# Altium schematic symbol library 2020-03-27_06-20-10.SchLib: 2 symbols
Pins are listed as number, name and electrical type; pins without a type are passive.

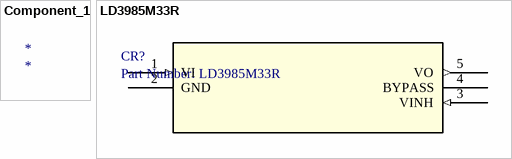
[diagram p0: symbols Component_1 to LD3985M33R]

## Component_1
designator *

## LD3985M33R
designator CR?, comment Part Number: LD3985M33R
No Description Available; Vendor: STMicroelectronics; Built_By: EMA_UL_Team; Type: DEV; Manufacturer_Part_Number: LD3985M33R; Copyright: Copyright (C) 2018 Accelerated Designs. All rights reserved; RefDes: RefDes; Value: Value
footprint SOT23-5L
pins: 1 VI (in), 2 GND, 3 VINH (in), 4 BYPASS, 5 VO (out)